# Altium footprint library 2 Pin 100 mil Right Angle Header - Surface Mount.PcbLib: 1 footprints
Each footprint in its own frame and in the unit in brackets; x right, y up, seen from the top. Pads: shape width x height; smd on the part's side, far side on the other; paste and mask are expansions set on the pad; w line width, h text height; cw(c..) or ccw(c..) is an arc to the next point about the centre after c.
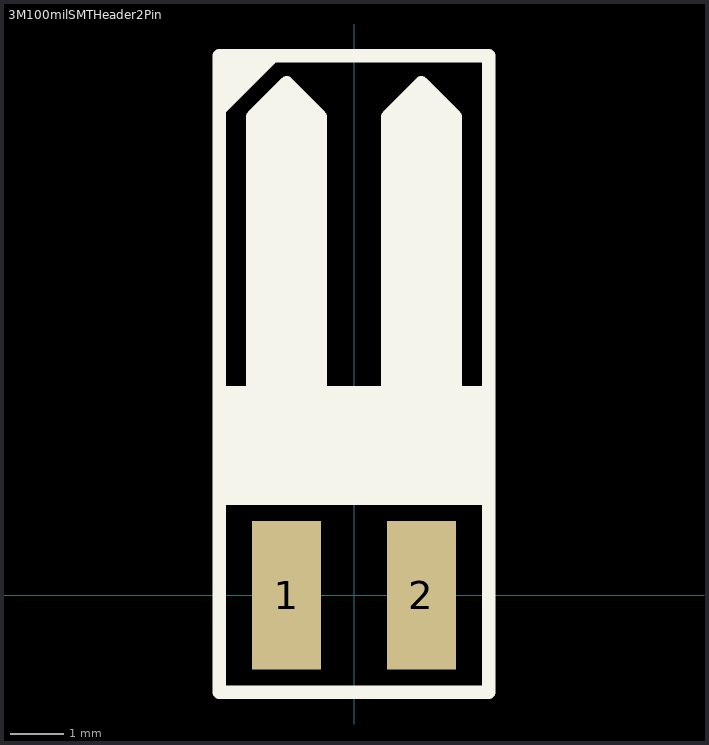
[diagram p0: the footprint, top view; thin cyan lines are the x and y axes]

## 3M100milSMTHeader2Pin [mil]
pads (2):
  rect 51x110 smd: 1(-50,0) 2(50,0)
Top Overlay:
  rectangle: -100,70 100,150
  lines w10: -100,71.97 100,71.97 ; -100,150 100,150 ; -100,360 -60,400 ; -100,370 -70,400 -80,400 ; -75,155 -75,355 -65,365 ; -65,155 -65,365 ; -35,155 -35,365 ; -25,155 -25,355 -35,365 ; 25,155 25,355 35,365 ; 35,155 35,365 ; 65,155 65,365 ; 75,155 75,355 65,365 ; -80,400 -90,400 -100,390 -100,380 -80,400 ; -65,365 -60,370 ; -60,370 -50,380 ; -60,370 -60,150 -60,370 ; -50,380 -50,150 -50,380 ; -50,380 -45,375 ; -45,375 -45,155 -40,150 -40,370 ; -45,375 -40,370 ; -40,370 -35,365 ; 35,365 40,370 ; 40,370 50,380 ; 40,370 40,150 40,370 ; 50,380 50,150 50,380 ; 50,380 55,375 ; 55,375 55,155 60,150 60,370 ; 55,375 60,370 ; 60,370 65,365 ; -100,-71.85 100,-71.85 100,400 -100,400 -100,-71.85